# Altium schematic symbol library moya.SchLib: 39 symbols
Pins are listed as number, name and electrical type; pins without a type are passive.

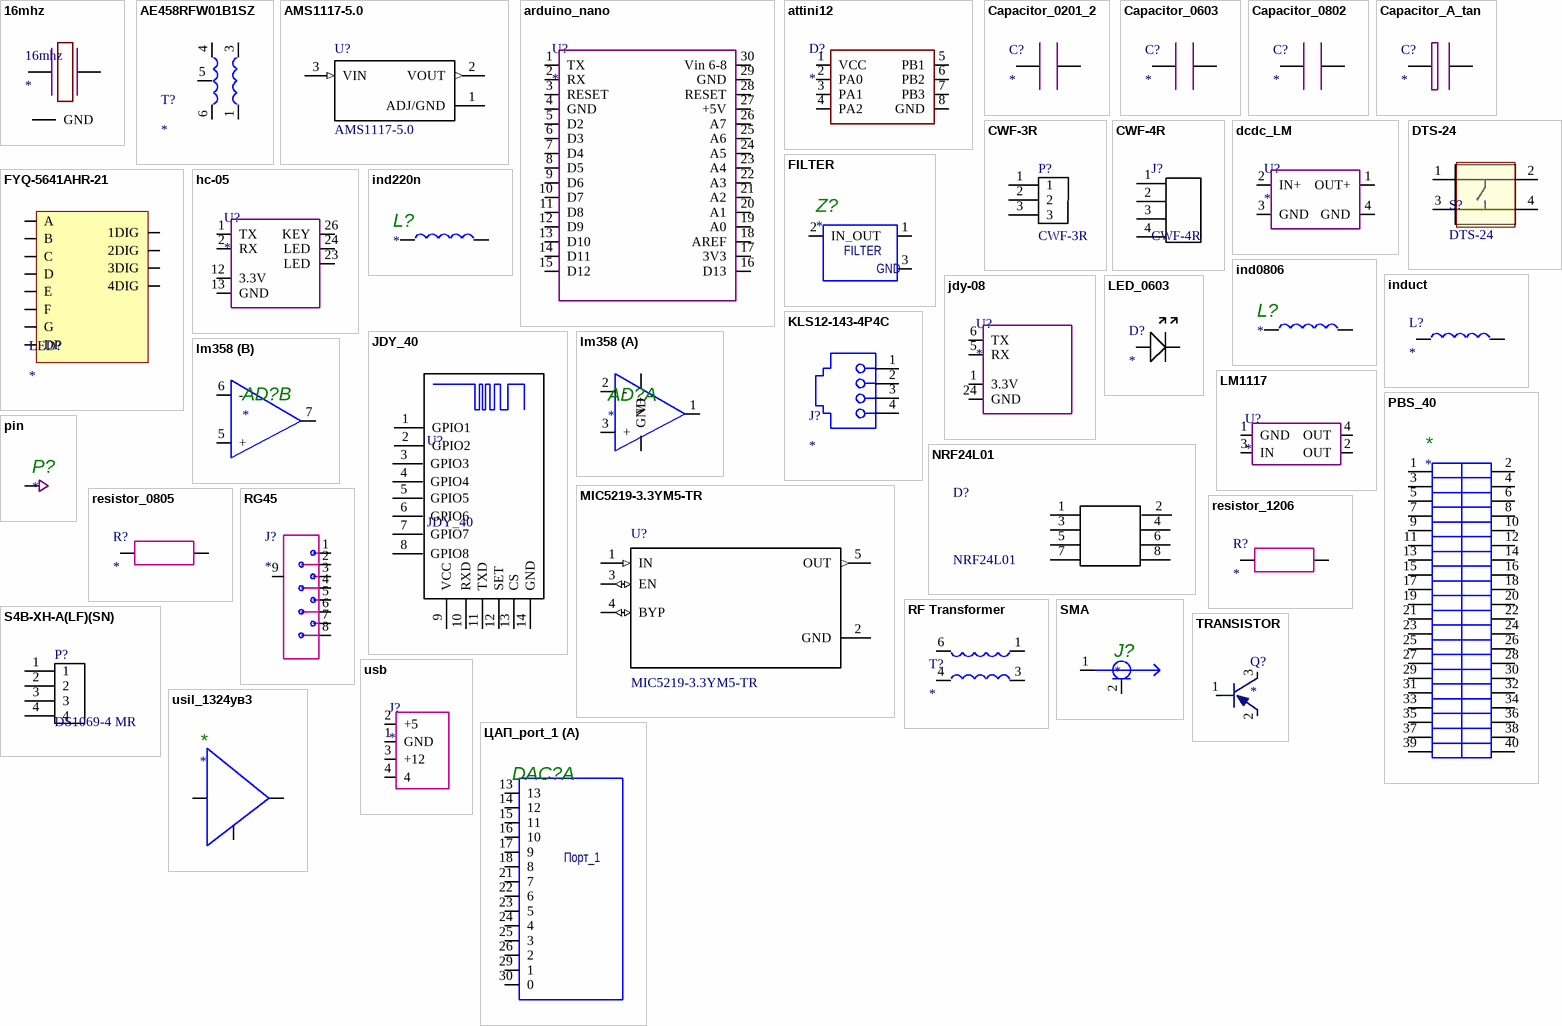
[diagram p0: symbols 16mhz to ЦАП_port_1]

## 16mhz
designator 16mhz
footprint 3225
pins: 1, 2 GND, 3

## AE458RFW01B1SZ
designator T?
footprint AE458RFW (DFN, 4-Leads, Body 3.80x3.80mm, Pitch 3.80mm, IPC Medium Density)
pins: 1, 3 2, 4 1, 5 7, 6

## AMS1117-5.0
designator U?
Sot223/Pkg 1-Amp 5-Volt Low Drop Out Voltage Regulatator; MF: Advanced Monolithic Systems; Availability: Unavailable; SnapEDA_Link: https://www.snapeda.com/parts/AMS1117-5.0/Advanced%20Monolithic%20Systems/view-part/?ref=snap; Package: None; MP: AMS1117-5.0; Price: None; Value: *
footprint SOT229P700X180-4N
pins: 1 ADJ/GND (power), 2 VOUT (out), 3 VIN (in)

## arduino_nano
designator U?
footprint ARDUINO_NANO
pins: 1 TX, 2 RX, 3 RESET, 4 GND, 5 D2, 6 D3, 7 D4, 8 D5, 9 D6, 10 D7, 11 D8, 12 D9, 13 D10, 14 D11, 15 D12, 16 D13, 17 3V3, 18 AREF, 19 A0, 20 A1, 21 A2, 22 A3, 23 A4, 24 A5, 25 A6, 26 A7, 27 +5V, 28 RESET, 29 GND, 30 Vin 6-8

## attini12
designator D?
footprint 8s1 (SOIC, 8-Leads, Body 4.92x3.90mm, Pitch 1.27mm, IPC Medium Density)
pins: 1 VCC, 2 PA0, 3 PA1, 4 PA2, 5 PB1, 6 PB2, 7 PB3, 8 GND

## Capacitor_0201_2
designator C?
footprint SOT229P700X180-4N
pins: 1, 2

## Capacitor_0603
designator C?
footprint 0603
pins: 1, 2

## Capacitor_0802
designator C?
footprint R_0802
footprint 0603
pins: 1, 2

## Capacitor_A_tan
designator C?
footprint CAPM3216X18N_A (Molded Capacitor, 2-Leads, Body 3.20x1.60mm, IPC Medium Density)
pins: 1, 2

## CWF-3R
designator P?
XH Series 4 Position 2.5 mm Through Hole Right Angle Press Fit Shrouded Header; MF: JST; MP: CWF-3R; Package: None; SnapEDA_Link: https://www.snapeda.com/parts/S4B-XH-A%20%28LF%29%28SN%29/JST/view-part/?ref=snap; Availability: Unavailable; Price: None; Value: *
footprint CWF-3R
pins: 1, 2, 3

## CWF-4R
designator J?
XH Series 4 Position 2.5 mm Through Hole Right Angle Press Fit Shrouded Header; MP: CWF-3R; MF: JST; Package: None; SnapEDA_Link: https://www.snapeda.com/parts/S4B-XH-A%20%28LF%29%28SN%29/JST/view-part/?ref=snap; Availability: Unavailable; Price: None; Value: *
footprint CWF-4R
pins: 1, 2, 3, 4

## dcdc_LM
designator U?
footprint dcdc_LM
pins: 1 OUT+, 2 IN+, 3 GND, 4 GND

## DTS-24
designator S?
footprint DTS-24
pins: 1 A0, 2 A1, 3 B0, 4 B1

## FILTER
designator Z?
footprint FILTER
pins: 1 IN_OUT, 2 IN_OUT, 3 GND

## FYQ-5641AHR-21
designator LED?
footprint FYQ-5641AHR-21
pins: 1 E, 2 D, 3 DP, 4 C, 5 G, 6 4DIG, 7 B, 8 3DIG, 9 2DIG, 10 F, 11 A, 12 1DIG

## hc-05
designator U?
footprint hc-05
pins: 1 TX, 2 RX, 12 3.3V, 13 GND, 23 LED, 24 LED, 26 KEY

## ind220n
designator L?
footprint 1206 (Chip Resistor)
pins: 1, 2

## ind0806
designator L?
footprint R_0805
pins: 1, 2

## induct
designator L?
footprint R_0805
pins: 1, 2

## jdy-08
designator U?
footprint jdy-08
pins: 1 3.3V, 5 RX, 6 TX, 24 GND

## JDY_40
designator U?
MF: Advanced Monolithic Systems; Availability: Unavailable; SnapEDA_Link: https://www.snapeda.com/parts/AMS1117-5.0/Advanced%20Monolithic%20Systems/view-part/?ref=snap; Package: None; MP: JDY_40; Price: None; Value: *
footprint JDY_40
pins: 1 GPIO1 (power), 2 GPIO2 (power), 3 GPIO3 (power), 4 GPIO4 (power), 5 GPIO5 (power), 6 GPIO6 (power), 7 GPIO7 (power), 8 GPIO8 (power), 9 VCC (power), 10 RXD (power), 11 TXD (power), 12 SET (power), 13 CS (power), 14 GND (power)

## KLS12-143-4P4C
designator J?
footprint KLS12-143-4P4C
pins: 1 4DIG, 2 4DIG, 3 4DIG, 4 4DIG

## LED_0603
designator D?
footprint 0603
pins: 1, 2

## lm358
designator AD?
footprint soic 8 (SOIC, 8-Leads, Body 4.90x3.90mm, Pitch 1.27mm, IPC Medium Density)
part A pins: 1, 2 -, 3 +, 4 GND, 8 V+
part B pins: 5 +, 6 -, 7 1

## LM1117
designator U?
footprint SOT223
pins: 1 GND, 2 OUT, 3 IN, 4 OUT

## MIC5219-3.3YM5-TR
designator U?
MIC5219 Series 500 mA 3.3 V Fixed Output Surface Mount LDO Regulator - SOT-23-5; MF: Microchip; Package: SOT-23 Microchip; Price: None; MP: MIC5219-3.3YM5-TR; Availability: Unavailable; SnapEDA_Link: https://www.snapeda.com/parts/MIC5219-3.3YM5-TR/Microchip/view-part/?ref=snap; Value: *
footprint mic51
pins: 1 IN (in), 2 GND (power), 3 EN (io), 4 BYP (io), 5 OUT (out)

## NRF24L01
designator D?
XH Series 4 Position 2.5 mm Through Hole Right Angle Press Fit Shrouded Header; MF: JST; MP: NRF24L01; Package: None; SnapEDA_Link: https://www.snapeda.com/parts/S4B-XH-A%20%28LF%29%28SN%29/JST/view-part/?ref=snap; Availability: Unavailable; Price: None; Value: *
footprint NRF24L01
pins: 1, 2, 3, 4, 5, 6, 7, 8

## PBS_40
designator *
footprint PBS_40
pins: 1 K25, 2 K31, 3, 4, 5, 6, 7, 8, 9, 10, 11, 12, 13, 14, 15, 16, 17, 18, 19, 20, 21, 22, 23, 24, 25, 26, 27, 28, 29, 30, 31, 32, 33, 34, 35, 36, 37, 38, 39, 40

## pin
designator P?
footprint pin (Molded Capacitor, 2-Leads, Body 3.20x1.60mm, IPC Medium Density)
pins: 0

## resistor_0805
designator R?
footprint R_0805
pins: 1, 2

## resistor_1206
designator R?
footprint 1206 (Chip Resistor)
pins: 1, 2

## RF Transformer
designator T?
footprint TC1-1-13M (DFN, 4-Leads, Body 3.80x3.80mm, Pitch 3.80mm, IPC Medium Density)
pins: 1, 3 2, 4 1, 6

## RG45
designator J?
footprint RS45
pins: 1, 2, 3, 4, 5, 6, 7, 8, 9

## S4B-XH-A(LF)(SN)
designator P?, comment DS1069-4 MR
XH Series 4 Position 2.5 mm Through Hole Right Angle Press Fit Shrouded Header; MP: S4B-XH-A _LF__SN_; MF: JST; Package: None; SnapEDA_Link: https://www.snapeda.com/parts/S4B-XH-A%20%28LF%29%28SN%29/JST/view-part/?ref=snap; Availability: Unavailable; Price: None; Value: *
footprint JST_S4B-XH-A(LF)(SN)
pins: 1, 2, 3, 4

## SMA
designator J?
footprint SMA
pins: 1 8, 2

## TRANSISTOR
designator Q?
footprint SOT23
pins: 1, 2, 3

## usb
designator J?
footprint usb
pins: 1 GND, 2 +5, 3 +12, 4

## usil_1324ув3
designator *
footprint usil_5140 (Chip Array, Concave, 6-Leads, Pitch 1.27mm,  Body 5.00x5.00mm,  IPC Medium Density)
pins: 1 GND hidden to GND, 2 GND hidden to GND, 3, 4 GND hidden to GND, 5 GND, 6 GND hidden to GND, 7, 8 GND hidden to GND

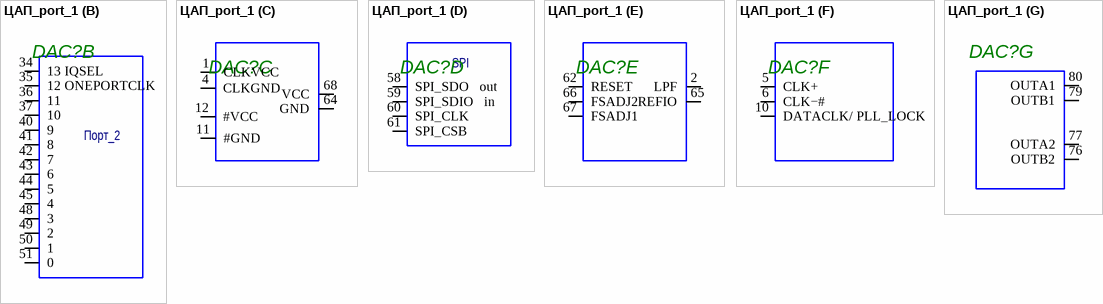
[diagram p1: symbol ЦАП_port_1]

## ЦАП_port_1
designator DAС?  (value not drawn)
footprint цап (CQFP, 88-Leads, Body 32.50x32.50mm, Pitch 0.63mm, IPC Medium Density)
pins on every part: 3 CLKVCC hidden to CLKVCC, 7 CLKGND hidden to GND, 19 GND hidden to GND, 20 #VCC hidden to #VCC, 27 GND hidden to GND, 28 #VCC hidden to #VCC, 38 GND hidden to GND, 39 #VCC hidden to #VCC, 46 #VCC hidden to #VCC, 47 GND hidden to GND, 55 #VCC hidden to #VCC, 56 GND hidden to GND, 63 GND hidden to GND, 69 GND hidden to GND, 70 VCC hidden to VCC, 71 GND hidden to GND, 72 GND hidden to GND, 73 VCC hidden to VCC, 74 GND hidden to GND, 75 GND hidden to GND, 78 GND hidden to GND, 81 GND hidden to GND, 82 GND hidden to GND, 83 VCC hidden to VCC, 84 GND hidden to GND, 85 GND hidden to GND, 86 VCC hidden to VCC, 87 GND hidden to GND, 88 VCC hidden to VCC
part A pins: 13, 14 12, 15 11, 16 10, 17 9, 18 8, 21 7, 22 6, 23 5, 24 4, 25 3, 26 2, 29 1, 30 0
part B pins: 34 13 IQSEL, 35 12 ONEPORTCLK, 36 11, 37 10, 40 9, 41 8, 42 7, 43 6, 44 5, 45 4, 48 3, 49 2, 50 1, 51 0
part C pins: 1 CLKVCC, 4 CLKGND, 11 #GND, 12 #VCC, 64 GND, 68 VCC
part D pins: 58 SPI_SDO   out, 59 SPI_SDIO   in, 60 SPI_CLK, 61 SPI_CSB
part E pins: 2 LPF, 62 RESET, 65 REFIO, 66 FSADJ2, 67 FSADJ1
part F pins: 5 CLK+, 6 CLK−#, 10 DATACLK/ PLL_LOCK
part G pins: 76 OUTB2, 77 OUTA2, 79 OUTB1, 80 OUTA1
part A text: Порт_1
part B text: Порт_2
part D text: SPI